# EAGLE library part TCS34725 (library dwbLibrary)
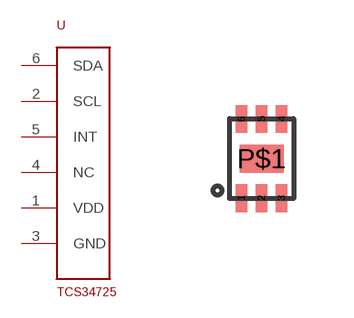
[diagram p0: symbol with the pads of DFN-6; footprint DFN-6]

Designator prefix -

## TCS34725  [DFN-6]
1  VDD
2  SCL
3  GND
4  NC
5  INT
6  SDA

## Footprint DFN-6 (pad centres in mm)
TCS34725
smd 0.28 x 0.7: 1 -0.5,-0.988; 2 0,-0.988; 3 0.5,-0.988; 4 0.5,0.988; 5 0,0.988; 6 -0.5,0.988
smd 1.1 x 0.7: P$1 0,0